# Altium footprint library USB4110-GF-A.PcbLib: 1 footprints
Each footprint in its own frame and in the unit in brackets; x right, y up, seen from the top. Pads: shape width x height; smd on the part's side, far side on the other; paste and mask are expansions set on the pad; w line width, h text height; cw(c..) or ccw(c..) is an arc to the next point about the centre after c.
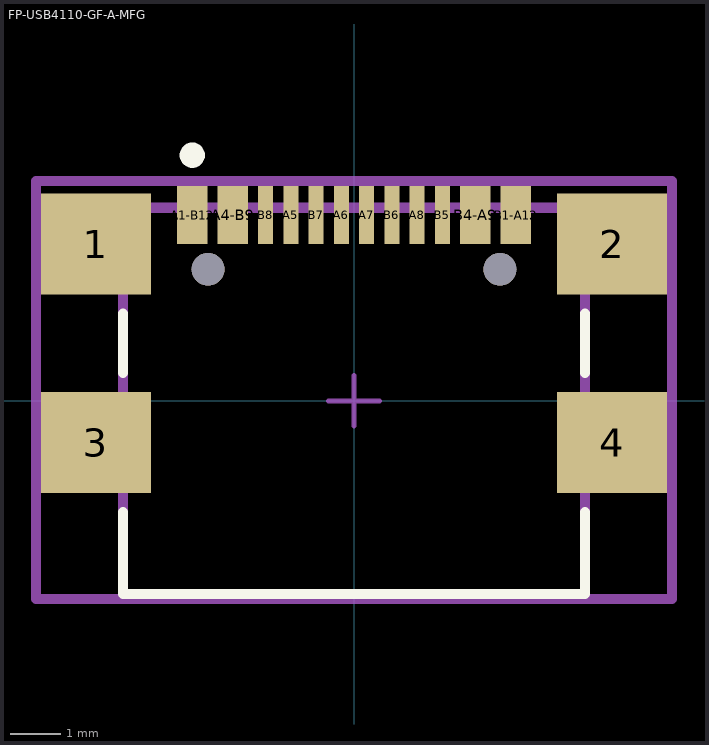
[diagram p0: the footprint, top view; thin cyan lines are the x and y axes]

## FP-USB4110-GF-A-MFG [mm]
pads (18):
  rect 2.18x2 smd paste+0 mask+0: 1(-5.11,3.105) 2(5.11,3.105) 3(-5.11,-0.825) 4(5.11,-0.825)
  rect 0.6x1.15 smd paste+0 mask+0: A1-B12(-3.2,3.68) A4-B9(-2.4,3.68) B1-A12(3.2,3.68) B4-A9(2.4,3.68)
  rect 0.3x1.15 smd paste+0 mask+0: A5(-1.25,3.68) A6(-0.25,3.68) A7(0.25,3.68) A8(1.25,3.68) B5(1.75,3.68) B6(0.75,3.68) B7(-0.75,3.68) B8(-1.75,3.68)
  round 0.65 hole 0.65 unplated paste-2539.97 mask+0: ""(-2.89,2.605) ""(2.89,2.605)
Top Overlay:
  circle w0.25: c-3.201,4.865 r0.125
  lines w0.2: -4.57,-2.2 -4.57,-3.825 4.57,-3.825 4.57,-2.2 ; -4.57,0.55 -4.57,1.73 ; 4.57,0.55 4.57,1.73
Top Assembly:
  lines w0.2: -6.3,-3.925 -6.3,4.355 6.3,4.355 6.3,-3.925 -6.3,-3.925
  text ".Designator" at 0,0.402 h1
Top 3D Body:
  lines w0.2: -4.57,-3.825 -4.57,3.825 4.57,3.825 4.57,-3.825 -4.57,-3.825
Top Courtyard:
  lines w0.2: -6.3,-3.925 -6.3,4.355 6.3,4.355 6.3,-3.925 -6.3,-3.925
Top Component Center:
  lines w0.1: -0.5,0 0.5,0 ; 0,-0.5 0,0.5
3D body "Conn_GCT_USB4110-GF-A_eec.STEP": height 0.25, standoff 0, extent -6.3,-3.925 6.3,4.355